# Altium schematic symbol library Generic-Schematic-Library.SchLib: 11 symbols
Pins are listed as number, name and electrical type; pins without a type are passive.

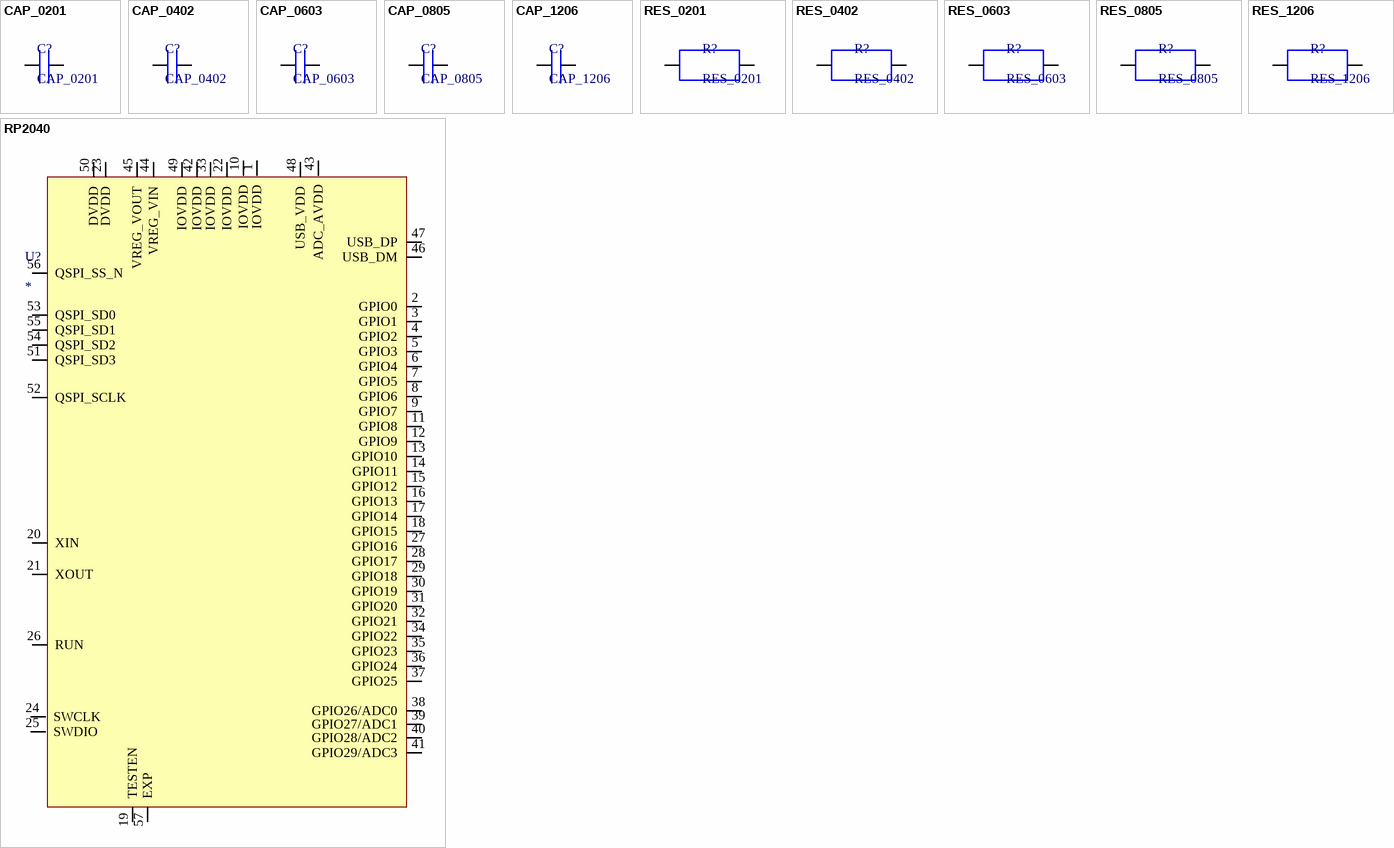
[diagram p0: symbols CAP_0201 to RP2040]

## CAP_0201
designator C?
Capacitor SMD 0201 Generic; Manufacturer: YAGEO; Manufacturer Part Number: CC0201KRX7R7BB103; Capacitance: 10 nF; Tolerance: 10%; LCSC Part Number: C272853
footprint CAP_0201
pins: 9, 10

## CAP_0402
designator C?
Capacitor SMD 0402 Generic; Manufacturer: YAGEO; Manufacturer Part Number: CC0402JRNPO9BN101; Capacitance: 100 pF; Tolerance: 5%; LCSC Part Number: C106200
footprint CAP_0402
pins: 9, 10

## CAP_0603
designator C?
Capacitor SMD 0603 Generic; Manufacturer: YAGEO; Manufacturer Part Number: CC0603KRX7R8BB104; Capacitance: 100 nF; Tolerance: 10%; LCSC Part Number: C92490
footprint CAP_0603
pins: 9, 10

## CAP_0805
designator C?
Capacitor SMD 0805 Generic; Manufacturer: YAGEO; Manufacturer Part Number: CC0805KKX7R9BB334; Capacitance: 330nF; Tolerance: 10%; LCSC Part Number: C107132
footprint CAP_0805
pins: 9, 10

## CAP_1206
designator C?
Capacitor SMD 1206 Generic; Manufacturer: Mouser; Manufacturer Part Number: 1206CC102K4Z2A; Capacitance: 1000 pF; Tolerance: 10%; LCSC Part Number: C272853
footprint CAP_1206
pins: 9, 10

## RES_0201
designator R?
Resistor SMD 0201 Generic; Manufacturer: YAGEO; Manufacturer Part Number: RT0201BRD07200RL; Tolerance: 0.1%; Resistance: 200 Ohm; LCSC Part Number: C852221
footprint RES_0201
footprint Model Name (Footprint not found)
footprint Model Name (Footprint not found)
footprint RES_0201
footprint RES_0201
pins: 7, 8

## RES_0402
designator R?
Resistor SMD 0402 Generic; Manufacturer: YAGEO; Manufacturer Part Number: RC0402FR07150KL; Tolerance: 1%; Resistance: 150 kOhm; LCSC Part Number: C93947
footprint RES_0402
pins: 7, 8

## RES_0603
designator R?
Resistor SMD 0603 Generic; Manufacturer: YAGEO; Manufacturer Part Number: NT0603BRD0711K1L; Tolerance: 0.1%; Resistance: 11.1 kOhm; LCSC Part Number: C5197511
footprint RES_0603
pins: 7, 8

## RES_0805
designator R?
Resistor SMD 0805 Generic; Manufacturer: YAGEO; Manufacturer Part Number: PE0805FRF470R02L; Tolerance: 1%; Resistance: 20 mOhm; LCSC Part Number: C858594
footprint RES_0805
pins: 7, 8

## RES_1206
designator R?
Resistor SMD 1206 Generic; Manufacturer: YAGEO; Manufacturer Part Number: AC1206FR-07390KL; Tolerance: 1%; Resistance: 390 kOhm; LCSC Part Number: C229586
footprint RES_1206
pins: 7, 8

## RP2040
designator U?
264KB 30 133MHZ LQFN-56(7X7) Microcontrollers (mcu/mpu/soc) Rohs; Manufacturer: Rasperry Pi; Manufacturer Part Number: RP2040; Supplier: RS; Supplier Part Number: 2211611; Stock: 2540; Pricing: 10=6.171, 50=5.945, 100=5.805 (DKK); LCSC: C2040
footprint RP2040
pins: 1 IOVDD, 2 GPIO0, 3 GPIO1, 4 GPIO2, 5 GPIO3, 6 GPIO4, 7 GPIO5, 8 GPIO6, 9 GPIO7, 10 IOVDD, 11 GPIO8, 12 GPIO9, 13 GPIO10, 14 GPIO11, 15 GPIO12, 16 GPIO13, 17 GPIO14, 18 GPIO15, 19 TESTEN, 20 XIN, 21 XOUT, 22 IOVDD, 23 DVDD, 24 SWCLK, 25 SWDIO, 26 RUN, 27 GPIO16, 28 GPIO17, 29 GPIO18, 30 GPIO19, 31 GPIO20, 32 GPIO21, 33 IOVDD, 34 GPIO22, 35 GPIO23, 36 GPIO24, 37 GPIO25, 38 GPIO26/ADC0, 39 GPIO27/ADC1, 40 GPIO28/ADC2, 41 GPIO29/ADC3, 42 IOVDD, 43 ADC_AVDD, 44 VREG_VIN, 45 VREG_VOUT, 46 USB_DM, 47 USB_DP, 48 USB_VDD, 49 IOVDD, 50 DVDD, 51 QSPI_SD3, 52 QSPI_SCLK, 53 QSPI_SD0, 54 QSPI_SD2, 55 QSPI_SD1, 56 QSPI_SS_N, 57 EXP